# EAGLE library part ED555/6DS (library myLib)
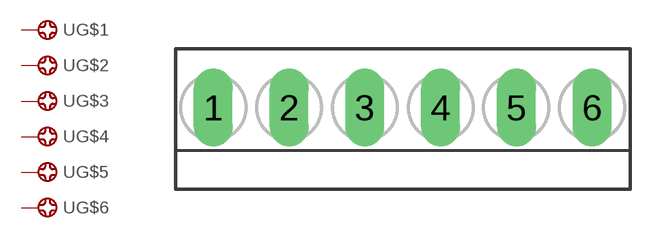
[diagram p13: symbol with the pads of ED555/6DS; footprint ED555/6DS]

Designator prefix -; gates G$1=CONNECT G$2=CONNECT G$3=CONNECT G$4=CONNECT G$5=CONNECT G$6=CONNECT

## ED555/6DS  [ED555/6DS]
1  G$1:1  pas
2  G$2:1  pas
3  G$3:1  pas
4  G$4:1  pas
5  G$5:1  pas
6  G$6:1  pas

## Footprint ED555/6DS (pad centres in mm)
drill 1.194 long: 1 -8.75,-0.02; 2 -5.25,-0.02; 3 -1.75,-0.02; 4 1.75,-0.02; 5 5.25,-0.02; 6 8.75,-0.02